# Altium schematic symbol library Nick.SchLib: 18 symbols
Pins are listed as number, name and electrical type; pins without a type are passive.

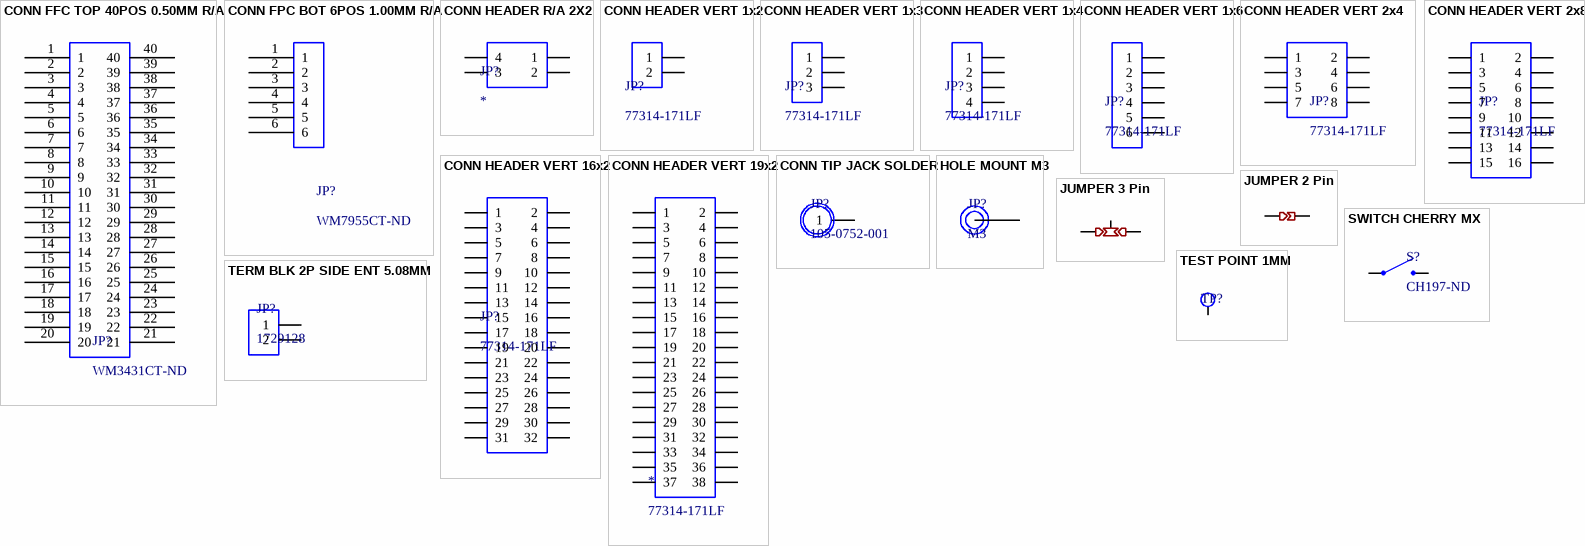
[diagram p0: symbols CONN FFC TOP 40POS 0.50MM R/A to TEST POINT 1MM]

## CONN FFC TOP 40POS 0.50MM R/A
designator JP?, comment WM3431CT-ND
Easy-On FFC/FPC Connector, 0.50mm Pitch, Slider Series, Right-Angle, Top Contact, 2.00mm Height, 40 Circuits, Gold Plating / 541044031
footprint 541044031 (Easy-On FFC/FPC Connector, 0.50mm Pitch, Slider Series, Right-Angle, Bottom Contact, 2.00mm Height, 40 Circuits,)
pins: 1, 2, 3, 4, 5, 6, 7, 8, 9, 10, 11, 12, 13, 14, 15, 16, 17, 18, 19, 20, 21, 22, 23, 24, 25, 26, 27, 28, 29, 30, 31, 32, 33, 34, 35, 36, 37, 38, 39, 40

## CONN FPC BOT 6POS 1.00MM R/A
designator JP?, comment WM7955CT-ND
Easy-On FFC/FPC Connector, 1.00mm Pitch, Slider Series, Right-Angle, Bottom Contact, 3.00mm Height, 6 Circuits, Tin-Bismuth Plating / 522710679
footprint 522710679
pins: 1, 2, 3, 4, 5, 6

## CONN HEADER R/A 2X2
designator JP?
footprint 2X2 PIN HEADER
pins: 1, 2, 3, 4

## CONN HEADER VERT 1x2
designator JP?, comment 77314-171LF
CONN HEADER VERT 2POS 2.54MM
footprint 1x2 PIN HEADER
pins: 1, 2

## CONN HEADER VERT 1x3
designator JP?, comment 77314-171LF
CONN HEADER VERT 3POS 2.54MM
footprint 1x3 Pin Header
pins: 1, 2, 3

## CONN HEADER VERT 1x4
designator JP?, comment 77314-171LF
CONN HEADER VERT 4POS 2.54MM
footprint 1x4 Pin Header
pins: 1, 2, 3, 4

## CONN HEADER VERT 1x6
designator JP?, comment 77314-171LF
CONN HEADER VERT 6POS 2.54MM
footprint 1x6 Pin Header
pins: 1, 2, 3, 4, 5, 6

## CONN HEADER VERT 2x4
designator JP?, comment 77314-171LF
CONN HEADER VERT 8POS 2.54MM
footprint 2x4 Pin Header
pins: 1, 2, 3, 4, 5, 6, 7, 8

## CONN HEADER VERT 2x8
designator JP?, comment 77314-171LF
CONN HEADER VERT 16POS 2.54MM
footprint 2x8 pin header
pins: 1, 2, 3, 4, 5, 6, 7, 8, 9, 10, 11, 12, 13, 14, 15, 16

## CONN HEADER VERT 16x2
designator JP?, comment 77314-171LF
CONN HEADER VERT 32POS 2.54MM
footprint 16X2 Pin Header
pins: 1, 2, 3, 4, 5, 6, 7, 8, 9, 10, 11, 12, 13, 14, 15, 16, 17, 18, 19, 20, 21, 22, 23, 24, 25, 26, 27, 28, 29, 30, 31, 32

## CONN HEADER VERT 19x2
designator *, comment 77314-171LF
CONN HEADER VERT 38POS 2.54MM
footprint 19x2 Pin header
pins: 1, 2, 3, 4, 5, 6, 7, 8, 9, 10, 11, 12, 13, 14, 15, 16, 17, 18, 19, 20, 21, 22, 23, 24, 25, 26, 27, 28, 29, 30, 31, 32, 33, 34, 35, 36, 37, 38

## CONN TIP JACK SOLDER
designator JP?, comment 105-0752-001
CONN TIP JACK SOLDER RED / Belfuse
footprint BAN_JACK (BELFUSE-105-0752-001)
pins: 1

## HOLE MOUNT M3
designator JP?, comment M3
M3 MOUNT HOLE SIZE
footprint M3-Hole
pins: 1

## JUMPER 2 Pin
designator JP?
0603 RES FOOTPRINT
footprint JUMPER 2 Pin
pins: 1 10, 2 11

## JUMPER 3 Pin
designator JP?
0603 RES FOOTPRINT
footprint JUMPER 3 Pin
pins: 1, 2, 3

## SWITCH CHERRY MX
designator S?, comment CH197-ND
SWITCH PUSH SPST-NO 0.01A 12V / Cherry MX Blue RGB Clear Keyswitch - PCB Mount - Tactile, Click - 10 Pack
footprint Cherry MX
pins: 1, 2

## TERM BLK 2P SIDE ENT 5.08MM
designator JP?, comment 1729128
Phoenix Contact-1729128
footprint 2x1_Term_Block (Phoenix Contact 1729128)
pins: 1, 2

## TEST POINT 1MM
designator TP?
1mm pad for test points
footprint TEST POINT
pins: 1